# Altium schematic symbol library Schematic-Lib-ABahlmann-SMD.SchLib: 214 symbols (part 2 of 2)
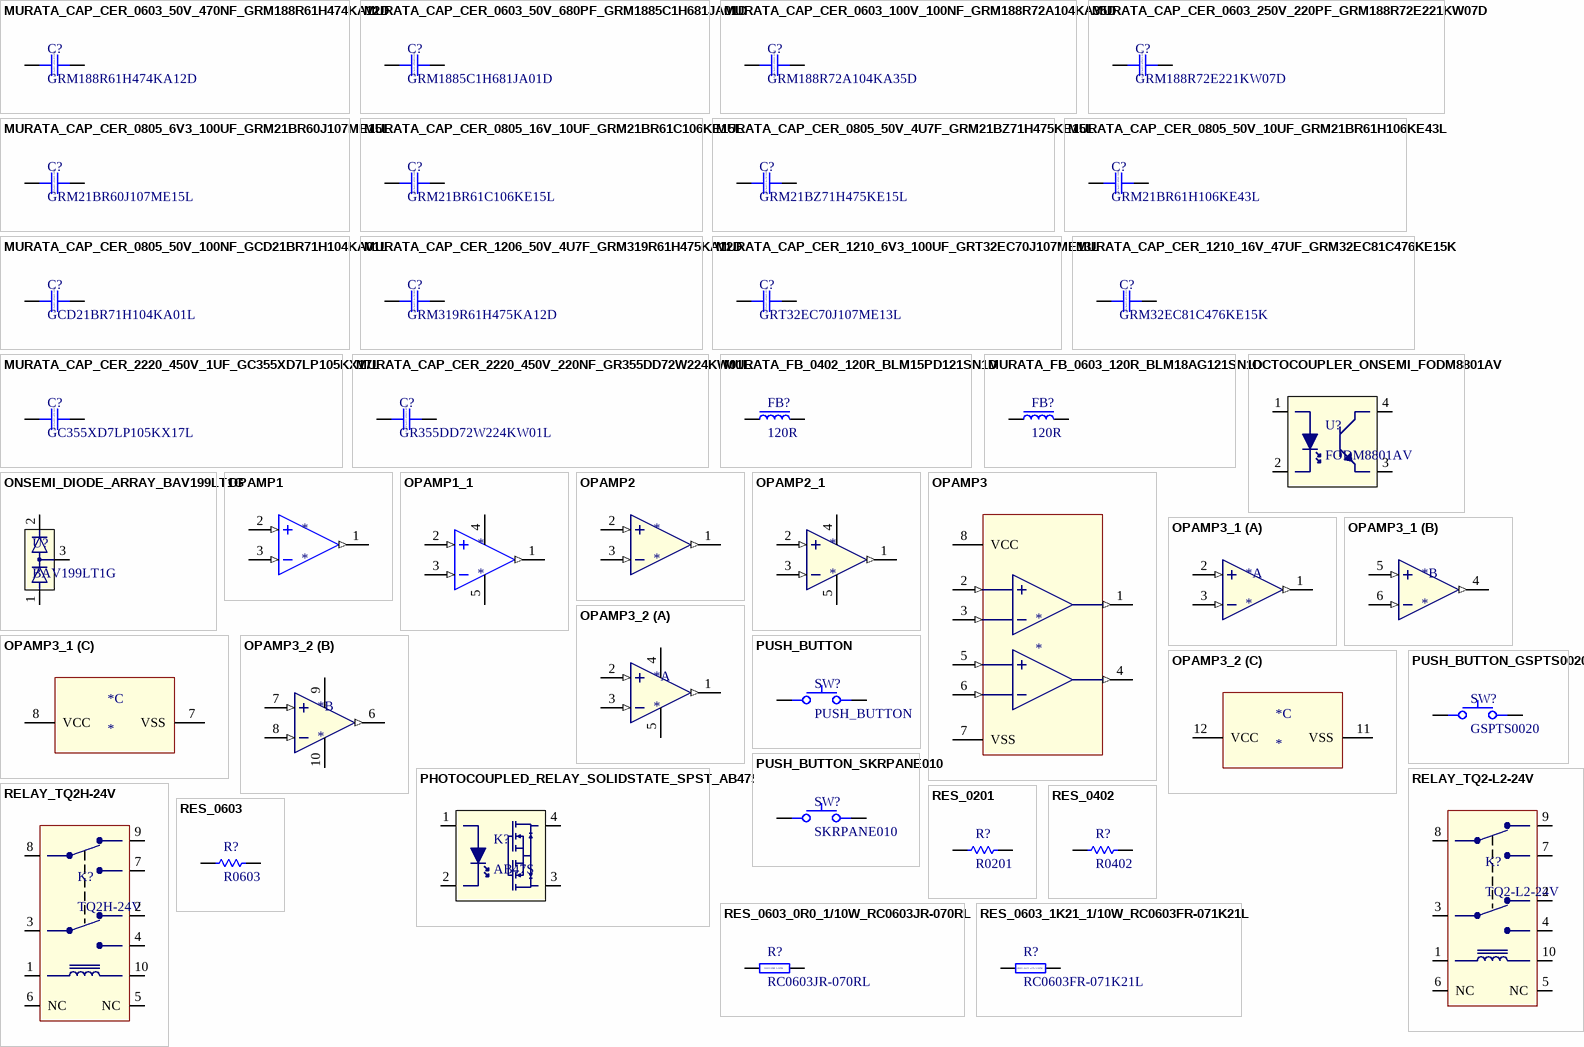
[diagram p6: symbols MURATA_CAP_CER_0603_50V_470NF_GRM188R61H474KA12D to RES_0603_1K21_1/10W_RC0603FR-071K21L]

## MURATA_FB_0402_120R_BLM15PD121SN1D
designator FB?, comment 120R
120 Ohms 1 Power Line Ferrite Bead 0402 (1005 Metric) 1.3A 90mOhm; Manufacturer: Murata Electronics; Manufacturer Part Number: BLM15PD121SN1D; Distributor Link: https://www.digikey.ca/en/products/detail/murata-electronics/BLM15PD121SN1D/1948309; LCSC: *; Rating: *; ComponentLink1Description: Digikey; ComponentLink1URL: https://www.digikey.ca/en/products/detail/murata-electronics/BLM15PD121SN1D/1948309; ComponentLink2Description: Datasheet; ComponentLink2URL: https://pim.murata.com/asset/pim4/ferriteBeadInductortypefilter/ENFA0018_PDF_FERRITEBEADINDUCTORTYPEFILTER?lastModifiedDatetime=20250707191428
footprint MURATA_FERRITE_BEAD_0402
pins: 1, 2

## MURATA_FB_0603_120R_BLM18AG121SN1D
designator FB?, comment 120R
120 Ohms @ 100 MHz 1 Ferrite Bead 0603 (1608 Metric) 800mA 180mOhm; Manufacturer: Murata Electronics; Manufacturer Part Number: BLM18AG121SN1D; Distributor Link: https://www.digikey.ca/en/products/detail/murata-electronics/BLM18AG121SN1D/584222; LCSC: *; Rating: *; ComponentLink1Description: Digikey; ComponentLink1URL: https://www.digikey.ca/en/products/detail/murata-electronics/BLM18AG121SN1D/584222; ComponentLink2Description: Datasheet; ComponentLink2URL: https://pim.murata.com/asset/pim4/ferriteBeadInductortypefilter/ENFA0003_PDF_FERRITEBEADINDUCTORTYPEFILTER?lastModifiedDatetime=20250707190934
footprint MURATA_FERRITE_BEAD_0603
pins: 1, 2

## OCTOCOUPLER_ONSEMI_FODM8801AV
designator U?, comment FODM8801AV
Optoisolator Transistor Output 3750Vrms 1 Channel 4-Mini-Flat; ComponentLink1Description: Digikey; ComponentLink1URL: https://www.digikey.com/en/products/detail/onsemi/FODM8801AV/4493940; ComponentLink2Description: Datasheet; ComponentLink2URL: https://www.onsemi.com/pdf/datasheet/fodm8801a-d.pdf
footprint SOIC-4_FODM8801AV (Optoisolator Transistor Output 3750Vrms 1 Channel 4-Mini-Flat)
pins: 1 ANODE, 2 CATHODE, 3 EMITTER, 4 COLLECTOR

## ONSEMI_DIODE_ARRAY_BAV199LT1G
designator U?, comment BAV199LT1G
Diode Array 1 Pair Series Connection 70 V 215mA (DC) Surface Mount TO-236-3, SC-59, SOT-23-3; ComponentLink1Description: Digikey; ComponentLink1URL: https://www.digikey.com/en/products/detail/onsemi/BAV199LT1G/917816; ComponentLink2Description: Datasheet; ComponentLink2URL: https://www.onsemi.com/pdf/datasheet/bav199lt1-d.pdf
footprint ONSEMI_DIODE_ARRAY_BAV199LT1G (Diode Array 1 Pair Series Connection 70 V 215mA (DC) Surface Mount TO-236-3, SC-59, SOT-23-3)
pins: 1 A, 2 K, 3 K/A

## OPAMP1
designator *
pins: 1 (out), 2 (in), 3 (in)

## OPAMP1_1
designator *
pins: 1 (out), 2 (in), 3 (in), 4, 5

## OPAMP2
designator *
pins: 1 (out), 2 (in), 3 (in)

## OPAMP2_1
designator *
pins: 1 (out), 2 (in), 3 (in), 4, 5

## OPAMP3
designator *
pins: 1 (out), 2 (in), 3 (in), 4 (out), 5 (in), 6 (in), 7 VSS, 8 VCC

## OPAMP3_1
designator *
part A pins: 1 (out), 2 (in), 3 (in)
part B pins: 4 (out), 5 (in), 6 (in)
part C pins: 7 VSS, 8 VCC

## OPAMP3_2
designator *
part A pins: 1 (out), 2 (in), 3 (in), 4, 5
part B pins: 6 (out), 7 (in), 8 (in), 9, 10
part C pins: 11 VSS, 12 VCC

## PHOTOCOUPLED_RELAY_SOLIDSTATE_SPST_AB47S
designator K?, comment AB47S
Solid State Photo-Coupled Relay (Photorelay) SPST-NO (1 Form A) 4-SOP (0.173", 4.40mm); ComponentLink1Description: Digikey; ComponentLink1URL: https://www.digikey.ca/en/products/detail/comus-international/AB47S/9817865; ComponentLink2Description: Datasheet; ComponentLink2URL: https://comus-intl.com/wp-content/uploads/2016/06/47-Series.pdf
pins: 1 ANODE, 2 CATHODE, 3, 4

## PUSH_BUTTON
designator SW?
Tactile Switch SMD SPST
pins: 1, 2

## PUSH_BUTTON_GSPTS0020
designator SW?, comment GSPTS0020
Tactile Switch SPST-NO Top Actuated Surface Mount; ComponentLink1Description: Digikey; ComponentLink1URL: https://www.digikey.ca/en/products/detail/c-k/GSPTS0020/9947846; ComponentLink2Description: Datasheet; ComponentLink2URL: https://www.ckswitches.com/media/2728/pts815.pdf
pins: 1, 2

## PUSH_BUTTON_SKRPANE010
designator SW?, comment SKRPANE010
Tactile Switch SPST-NO Top Actuated Surface Mount; ComponentLink1Description: Digikey; ComponentLink1URL: https://www.digikey.ca/en/products/detail/alps-alpine/SKRPANE010/26519635?s=N4IgTCBcDaIMoGkBKAFAggOQKIAYCMOIAugL5A; ComponentLink2Description: Datasheet; ComponentLink2URL: https://tech.alpsalpine.com/cms.media/product_spec_skrpane010_en_1e0076b4ef.pdf
pins: 1, 2

## RELAY_TQ2-L2-24V
designator K?, comment TQ2-L2-24V
Telecom Relay DPDT (2 Form C) Through Hole; ComponentLink1Description: Digikey; ComponentLink1URL: https://www.digikey.com/en/products/detail/panasonic-electric-works/TQ2-L2-24V/251781; ComponentLink2Description: Datasheet; ComponentLink2URL: https://mm.digikey.com/Volume0/opasdata/d220001/medias/docus/7330/mech_eng_tq.pdf
footprint RELAY_TQ2-L2-24V (Telecom Relay DPDT (2 Form C) Through Hole)
pins: 1, 2, 3, 4, 5 NC, 6 NC, 7, 8, 9, 10

## RELAY_TQ2H-24V
designator K?, comment TQ2H-24V
Telecom Relay DPDT (2 Form C) Through Hole; ComponentLink1Description: Digikey; ComponentLink1URL: https://www.digikey.com/en/products/detail/panasonic-electric-works/TQ2H-24V/649335; ComponentLink2Description: Datasheet; ComponentLink2URL: https://mm.digikey.com/Volume0/opasdata/d220001/medias/docus/7330/mech_eng_tq.pdf
pins: 1, 2, 3, 4, 5 NC, 6 NC, 7, 8, 9, 10

## RES_0201
designator R?, comment R0201
Resistor SMD 0201; Manufacturer: *; Manufacturer Part Number: *; Distributor Link: *; LCSC: *; Rating: *
pins: 1, 2

## RES_0402
designator R?, comment R0402
Resistor SMD 0402; Manufacturer: *; Manufacturer Part Number: *; Distributor Link: *; LCSC: *; Rating: *
footprint RES_0402
pins: 1, 2

## RES_0603
designator R?, comment R0603
Resistor SMD 0603; Manufacturer: *; Manufacturer Part Number: *; Distributor Link: *; LCSC: *; Rating: *
footprint RES_0603
pins: 1, 2

## RES_0603_0R0_1/10W_RC0603JR-070RL
designator R?, comment RC0603JR-070RL
0 Ohms Jumper 0.1W, 1/10W Chip Resistor 0603 (1608 Metric) Moisture Resistant Thick Film; Manufacturer: Yageo; Manufacturer Part Number: RC0603JR-070RL; Distributor Link: *; LCSC: *; Rating: *; ComponentLink1Description: Digikey; ComponentLink1URL: https://www.digikey.com/en/products/detail/yageo/RC0603JR-070RL/726675; ComponentLink2Description: Datasheet; ComponentLink2URL: https://yageogroup.com/content/datasheet/asset/file/PYU-RC_GROUP_51_ROHS_L
footprint RES_0603_0R0_1/10W_RC0603JR-070RL (0 Ohms Jumper 0.1W, 1/10W Chip Resistor 0603 (1608 Metric) Moisture Resistant Thick Film)
pins: 1, 2
text: 0603 0R0 1/10W

## RES_0603_1K21_1/10W_RC0603FR-071K21L
designator R?, comment RC0603FR-071K21L
1.21 kOhms ±1% 0.1W, 1/10W Chip Resistor 0603 (1608 Metric) Moisture Resistant Thick Film; Manufacturer: Yageo; Manufacturer Part Number: RC0603FR-071K21L; Distributor Link: *; LCSC: *; Rating: *; ComponentLink1Description: Digikey; ComponentLink1URL: https://www.digikey.ca/en/products/detail/yageo/RC0603FR-071K21L/726854; ComponentLink2Description: Datasheet; ComponentLink2URL: https://yageogroup.com/content/datasheet/asset/file/PYU-RC_GROUP_51_ROHS_L
footprint RES_0603_IPC
pins: 1, 2
text: 0603 1k21 ±1% 1/10W

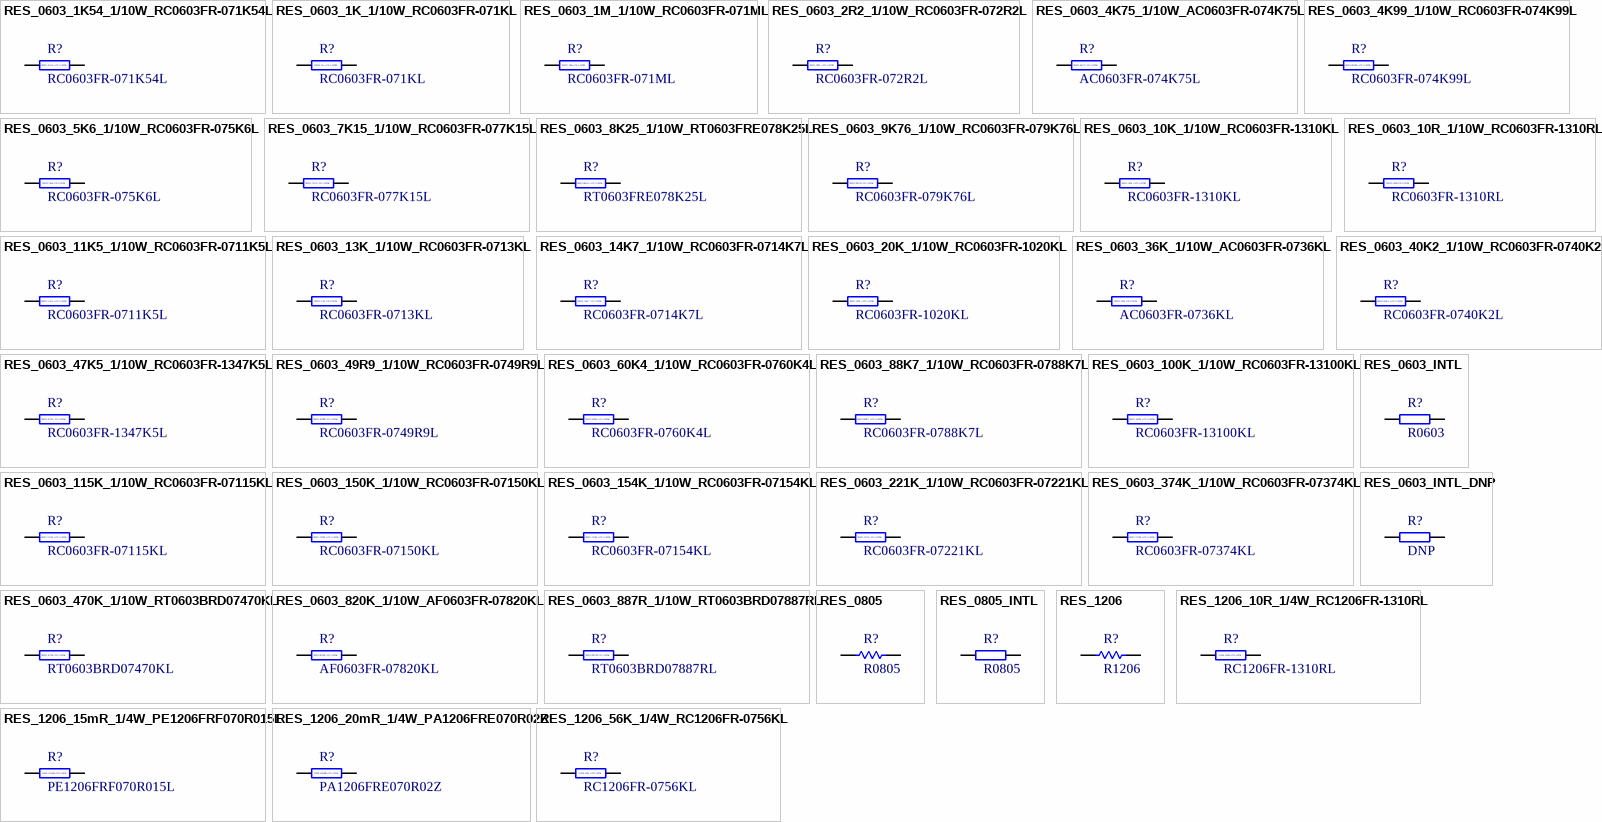
[diagram p4: symbols RES_0603_1K54_1/10W_RC0603FR-071K54L to RES_1206_56K_1/4W_RC1206FR-0756KL]

## RES_0603_1K54_1/10W_RC0603FR-071K54L
designator R?, comment RC0603FR-071K54L
1.54 kOhms ±1% 0.1W, 1/10W Chip Resistor 0603 (1608 Metric) Moisture Resistant Thick Film; Manufacturer: Yageo; Manufacturer Part Number: RC0603FR-071K54L; Distributor Link: *; LCSC: *; Rating: *; ComponentLink1Description: Digikey; ComponentLink1URL: https://www.digikey.ca/en/products/detail/yageo/RC0603FR-071K54L/726866; ComponentLink2Description: Datasheet; ComponentLink2URL: https://yageogroup.com/content/datasheet/asset/file/PYU-RC_GROUP_51_ROHS_L
footprint RES_0603_IPC
pins: 1, 2
text: 0603 1k54 ±1% 1/10W

## RES_0603_1K_1/10W_RC0603FR-071KL
designator R?, comment RC0603FR-071KL
1 kOhms ±1% 0.1W, 1/10W Chip Resistor 0603 (1608 Metric) Moisture Resistant Thick Film; Manufacturer: Yageo; Manufacturer Part Number: RC0603FR-071KL; Distributor Link: *; LCSC: *; Rating: *; ComponentLink1Description: Digikey; ComponentLink1URL: https://www.digikey.com/en/products/detail/yageo/RC0603FR-071KL/726843; ComponentLink2Description: Datasheet; ComponentLink2URL: https://yageogroup.com/content/datasheet/asset/file/PYU-RC_GROUP_51_ROHS_L
footprint RES_0603_1K_1/10W_RC0603FR-071KL (1 kOhms ±1% 0.1W, 1/10W Chip Resistor 0603 (1608 Metric) Moisture Resistant Thick Film)
pins: 1, 2
text: 0603 1k ±1% 1/10W

## RES_0603_1M_1/10W_RC0603FR-071ML
designator R?, comment RC0603FR-071ML
1 MOhms ±1% 0.1W, 1/10W Chip Resistor 0603 (1608 Metric) Moisture Resistant Thick Film; Manufacturer: Yageo; Manufacturer Part Number: RC0603FR-071ML; Distributor Link: *; LCSC: *; Rating: *; ComponentLink1Description: Digikey; ComponentLink1URL: https://www.digikey.ca/en/products/detail/yageo/RC0603FR-071ML/726844; ComponentLink2Description: Datasheet; ComponentLink2URL: https://yageogroup.com/content/datasheet/asset/file/PYU-RC_GROUP_51_ROHS_L
footprint RES_0603_IPC
pins: 1, 2
text: 0603 1M ±1% 1/10W

## RES_0603_2R2_1/10W_RC0603FR-072R2L
designator R?, comment RC0603FR-072R2L
2.2 Ohms ±1% 0.1W, 1/10W Chip Resistor 0603 (1608 Metric) Moisture Resistant Thick Film; Manufacturer: Yageo; Manufacturer Part Number: RC0603FR-072R2L; Distributor Link: *; LCSC: *; Rating: *; ComponentLink1Description: Digikey; ComponentLink1URL: https://www.digikey.ca/en/products/detail/yageo/RC0603FR-072R2L/2827592; ComponentLink2Description: Datasheet; ComponentLink2URL: https://yageogroup.com/content/datasheet/asset/file/PYU-RC_GROUP_51_ROHS_L
footprint RES_0603_IPC
pins: 1, 2
text: 0603 2R2 ±1% 1/10W

## RES_0603_4K75_1/10W_AC0603FR-074K75L
designator R?, comment AC0603FR-074K75L
4.75 kOhms ±1% 0.1W, 1/10W Chip Resistor 0603 (1608 Metric) Automotive AEC-Q200, Moisture Resistant Thick Film; Manufacturer: Yageo; Manufacturer Part Number: AC0603FR-074K75L; Distributor Link: *; LCSC: *; Rating: *; ComponentLink1Description: Digikey; ComponentLink1URL: https://www.digikey.ca/en/products/detail/yageo/AC0603FR-074K75L/5896159; ComponentLink2Description: Datasheet; ComponentLink2URL: https://yageogroup.com/content/datasheet/asset/file/PYU-AC_51_ROHS_L
footprint RES_0603_IPC
pins: 1, 2
text: 0603 4k75 1% 1/10W

## RES_0603_4K99_1/10W_RC0603FR-074K99L
designator R?, comment RC0603FR-074K99L
4.99 kOhms ±1% 0.1W, 1/10W Chip Resistor 0603 (1608 Metric) Moisture Resistant Thick Film; Manufacturer: Yageo; Manufacturer Part Number: RC0603FR-074K99L; Distributor Link: *; LCSC: *; Rating: *; ComponentLink1Description: Digikey; ComponentLink1URL: https://www.digikey.com/en/products/detail/yageo/RC0603FR-074K99L/727219; ComponentLink2Description: Datasheet; ComponentLink2URL: https://yageogroup.com/content/datasheet/asset/file/PYU-RC_GROUP_51_ROHS_L
footprint RES_0603_4K99_1/10W_RC0603FR-074K99L (4.99 kOhms ±1% 0.1W, 1/10W Chip Resistor 0603 (1608 Metric) Moisture Resistant Thick Film)
pins: 1, 2
text: 0603 4k99 ±1% 1/10W

## RES_0603_5K6_1/10W_RC0603FR-075K6L
designator R?, comment RC0603FR-075K6L
5.6 kOhms ±1% 0.1W, 1/10W Chip Resistor 0603 (1608 Metric) Moisture Resistant Thick Film; Manufacturer: Yageo; Manufacturer Part Number: RC0603FR-075K6L; Distributor Link: *; LCSC: *; Rating: *; ComponentLink1Description: Digikey; ComponentLink1URL: https://www.digikey.ca/en/products/detail/yageo/RC0603FR-075K6L/727275; ComponentLink2Description: Datasheet; ComponentLink2URL: https://yageogroup.com/content/datasheet/asset/file/PYU-RC_GROUP_51_ROHS_L
footprint RES_0603_IPC
pins: 1, 2
text: 0603 5k6 1% 1/10W

## RES_0603_7K15_1/10W_RC0603FR-077K15L
designator R?, comment RC0603FR-077K15L
7.15 kOhms ±1% 0.1W, 1/10W Chip Resistor 0603 (1608 Metric) Moisture Resistant Thick Film; Manufacturer: Yageo; Manufacturer Part Number: RC0603FR-077K15L; Distributor Link: *; LCSC: *; Rating: *; ComponentLink1Description: Digikey; ComponentLink1URL: https://www.digikey.ca/en/products/detail/yageo/RC0603FR-077K15L/727363; ComponentLink2Description: Datasheet; ComponentLink2URL: https://yageogroup.com/content/datasheet/asset/file/PYU-RC_GROUP_51_ROHS_L
footprint RES_0603_IPC
pins: 1, 2
text: 0603 7k15 1% 1/10W

## RES_0603_8K25_1/10W_RT0603FRE078K25L
designator R?, comment RT0603FRE078K25L
8.25 kOhms ±1% 0.1W, 1/10W Chip Resistor 0603 (1608 Metric) Thin Film; Manufacturer: Yageo; Manufacturer Part Number: RT0603FRE078K25L; Distributor Link: *; LCSC: *; Rating: *; ComponentLink1Description: Digikey; ComponentLink1URL: https://www.digikey.ca/en/products/detail/yageo/RT0603FRE078K25L/1075514; ComponentLink2Description: Datasheet; ComponentLink2URL: https://yageogroup.com/content/datasheet/asset/file/PYU-RT_1-TO-0-01_ROHS_L
footprint RES_0603_IPC
pins: 1, 2
text: 0603 8k25 ±1% 1/10W

## RES_0603_9K76_1/10W_RC0603FR-079K76L
designator R?, comment RC0603FR-079K76L
9.76 kOhms ±1% 0.1W, 1/10W Chip Resistor 0603 (1608 Metric) Moisture Resistant Thick Film; Manufacturer: Yageo; Manufacturer Part Number: RC0603FR-079K76L; Distributor Link: *; LCSC: *; Rating: *; ComponentLink1Description: Digikey; ComponentLink1URL: https://www.digikey.ca/en/products/detail/yageo/RC0603FR-079K76L/727422; ComponentLink2Description: Datasheet; ComponentLink2URL: https://yageogroup.com/content/datasheet/asset/file/PYU-RC_GROUP_51_ROHS_L
footprint RES_0603_IPC
pins: 1, 2
text: 0603 9k76 1% 1/10W

## RES_0603_10K_1/10W_RC0603FR-1310KL
designator R?, comment RC0603FR-1310KL
10 kOhms ±1% 0.1W, 1/10W Chip Resistor 0603 (1608 Metric) Moisture Resistant Thick Film; Manufacturer: Yageo; Manufacturer Part Number: RC0603FR-1310KL; Distributor Link: *; LCSC: *; Rating: *; ComponentLink1Description: Digikey; ComponentLink1URL: https://www.digikey.ca/en/products/detail/yageo/RC0603FR-1310KL/12756399?gclsrc=aw.ds&gad_source=1&gad_campaignid=17336435733&gbraid=0AAAAADrbLlhIcgpv2gvpz9yjGbse-w-JT&gclid=EAIaIQobChMIw7SC0aa8lgMVDofCCB3wmjAsEAQYASABEgK6OvD_BwE; ComponentLink2Description: Datasheet; ComponentLink2URL: https://yageogroup.com/content/datasheet/asset/file/PYU-RC_GROUP_51_ROHS_L
footprint RES_0603_10K_1/10W_RC0603FR-1310KL (10 kOhms ±1% 0.1W, 1/10W Chip Resistor 0603 (1608 Metric) Moisture Resistant Thick Film)
pins: 1, 2
text: 0603 10k ±1% 1/10W

## RES_0603_10R_1/10W_RC0603FR-1310RL
designator R?, comment RC0603FR-1310RL
10 Ohms ±1% 0.1W, 1/10W Chip Resistor 0603 (1608 Metric) Moisture Resistant Thick Film; Manufacturer: Yageo; Manufacturer Part Number: RC0603FR-1310RL; Distributor Link: *; LCSC: *; Rating: *; ComponentLink1Description: Digikey; ComponentLink1URL: https://www.digikey.ca/en/products/detail/yageo/RC0603FR-1310RL/13694232; ComponentLink2Description: Datasheet; ComponentLink2URL: https://yageogroup.com/content/datasheet/asset/file/PYU-RC_GROUP_51_ROHS_L
footprint RES_0603_IPC
pins: 1, 2
text: 0603 10R 1% 1/10W

## RES_0603_11K5_1/10W_RC0603FR-0711K5L
designator R?, comment RC0603FR-0711K5L
11.5 kOhms ±1% 0.1W, 1/10W Chip Resistor 0603 (1608 Metric) Moisture Resistant Thick Film; Manufacturer: Yageo; Manufacturer Part Number: RC0603FR-0711K5L; Distributor Link: *; LCSC: *; Rating: *; ComponentLink1Description: Digikey; ComponentLink1URL: https://www.digikey.ca/en/products/detail/yageo/RC0603FR-0711K5L/726901; ComponentLink2Description: Datasheet; ComponentLink2URL: https://yageogroup.com/content/datasheet/asset/file/PYU-RC_GROUP_51_ROHS_L
footprint RES_0603_11K5_1/10W_RC0603FR-0711K5L (11.5 kOhms ±1% 0.1W, 1/10W Chip Resistor 0603 (1608 Metric) Moisture Resistant Thick Film)
pins: 1, 2
text: 0603 11k5 ±1% 1/10W

## RES_0603_13K_1/10W_RC0603FR-0713KL
designator R?, comment RC0603FR-0713KL
13 kOhms ±1% 0.1W, 1/10W Chip Resistor 0603 (1608 Metric) Moisture Resistant Thick Film; Manufacturer: Yageo; Manufacturer Part Number: RC0603FR-0713KL; Distributor Link: *; LCSC: *; Rating: *; ComponentLink1Description: Digikey; ComponentLink1URL: https://www.digikey.ca/en/products/detail/yageo/RC0603FR-0713KL/726929; ComponentLink2Description: Datasheet; ComponentLink2URL: https://yageogroup.com/content/datasheet/asset/file/PYU-RC_GROUP_51_ROHS_L
footprint RES_0603_IPC
pins: 1, 2
text: 0603 13k 1% 1/10W

## RES_0603_14K7_1/10W_RC0603FR-0714K7L
designator R?, comment RC0603FR-0714K7L
14.7 kOhms ±1% 0.1W, 1/10W Chip Resistor 0603 (1608 Metric) Moisture Resistant Thick Film; Manufacturer: Yageo; Manufacturer Part Number: RC0603FR-0714K7L; Distributor Link: *; LCSC: *; Rating: *; ComponentLink1Description: Digikey; ComponentLink1URL: https://www.digikey.ca/en/products/detail/yageo/RC0603FR-0714K7L/726945; ComponentLink2Description: Datasheet; ComponentLink2URL: https://yageogroup.com/content/datasheet/asset/file/PYU-RC_GROUP_51_ROHS_L
footprint RES_0603_IPC
pins: 1, 2
text: 0603 14k7 1% 1/10W

## RES_0603_20K_1/10W_RC0603FR-1020KL
designator R?, comment RC0603FR-1020KL
20 kOhms ±1% 0.1W, 1/10W Chip Resistor 0603 (1608 Metric) Moisture Resistant Thick Film; Manufacturer: Yageo; Manufacturer Part Number: RC0603FR-1020KL; Distributor Link: *; LCSC: *; Rating: *; ComponentLink1Description: Digikey; ComponentLink1URL: https://www.digikey.com/en/products/detail/yageo/RC0603FR-1020KL/13694173; ComponentLink2Description: Datasheet; ComponentLink2URL: https://yageogroup.com/content/datasheet/asset/file/PYU-RC_GROUP_51_ROHS_L
footprint RES_0603_20K_1/10W_RC0603FR-1020KL (20 kOhms ±1% 0.1W, 1/10W Chip Resistor 0603 (1608 Metric) Moisture Resistant Thick Film)
pins: 1, 2
text: 0603 20k ±1% 1/10W

## RES_0603_36K_1/10W_AC0603FR-0736KL
designator R?, comment AC0603FR-0736KL
36 kOhms ±1% 0.1W, 1/10W Chip Resistor 0603 (1608 Metric) Automotive AEC-Q200, Moisture Resistant Thick Film; Manufacturer: Yageo; Manufacturer Part Number: AC0603FR-0736KL; Distributor Link: *; LCSC: *; Rating: *; ComponentLink1Description: Digikey; ComponentLink1URL: https://www.digikey.ca/en/products/detail/yageo/AC0603FR-0736KL/5896061; ComponentLink2Description: Datasheet; ComponentLink2URL: https://yageogroup.com/content/datasheet/asset/file/PYU-AC_51_ROHS_L
footprint RES_0603_IPC
pins: 1, 2
text: 0603 36k 1% 1/10W

## RES_0603_40K2_1/10W_RC0603FR-0740K2L
designator R?, comment RC0603FR-0740K2L
40.2 kOhms ±1% 0.1W, 1/10W Chip Resistor 0603 (1608 Metric) Moisture Resistant Thick Film; Manufacturer: Yageo; Manufacturer Part Number: RC0603FR-0740K2L; Distributor Link: *; LCSC: *; Rating: *; ComponentLink1Description: Digikey; ComponentLink1URL: https://www.digikey.ca/en/products/detail/yageo/RC0603FR-0740K2L/727221; ComponentLink2Description: Datasheet; ComponentLink2URL: https://yageogroup.com/content/datasheet/asset/file/PYU-RC_GROUP_51_ROHS_L
footprint RES_0603_IPC
pins: 1, 2
text: 0603 40k2 ±1% 1/10W

## RES_0603_47K5_1/10W_RC0603FR-1347K5L
designator R?, comment RC0603FR-1347K5L
47.5 kOhms ±1% 0.1W, 1/10W Chip Resistor 0603 (1608 Metric) Thick Film; Manufacturer: Yageo; Manufacturer Part Number: RC0603FR-1347K5L; Distributor Link: *; LCSC: *; Rating: *; ComponentLink1Description: Digikey; ComponentLink1URL: https://www.digikey.ca/en/products/detail/yageo/RC0603FR-1347K5L/14286382; ComponentLink2Description: Datasheet; ComponentLink2URL: https://yageogroup.com/content/datasheet/asset/file/PYU-RC_GROUP_51_ROHS_L
footprint RES_0603_IPC
pins: 1, 2
text: 0603 47k5 1% 1/10W

## RES_0603_49R9_1/10W_RC0603FR-0749R9L
designator R?, comment RC0603FR-0749R9L
49.9 Ohms ±1% 0.1W, 1/10W Chip Resistor 0603 (1608 Metric) Moisture Resistant Thick Film; Manufacturer: Yageo; Manufacturer Part Number: RC0603FR-0749R9L; Distributor Link: *; LCSC: *; Rating: *; ComponentLink1Description: Digikey; ComponentLink1URL: https://www.digikey.ca/en/products/detail/yageo/RC0603FR-0749R9L/727264; ComponentLink2Description: Datasheet; ComponentLink2URL: https://yageogroup.com/content/datasheet/asset/file/PYU-RC_GROUP_51_ROHS_L
footprint RES_0603_IPC
pins: 1, 2
text: 0603 49R9 1% 1/10W

## RES_0603_60K4_1/10W_RC0603FR-0760K4L
designator R?, comment RC0603FR-0760K4L
60.4 kOhms ±1% 0.1W, 1/10W Chip Resistor 0603 (1608 Metric) Moisture Resistant Thick Film; Manufacturer: Yageo; Manufacturer Part Number: RC0603FR-0760K4L; Distributor Link: *; LCSC: *; Rating: *; ComponentLink1Description: Digikey; ComponentLink1URL: https://www.digikey.ca/en/products/detail/yageo/RC0603FR-0760K4L/727328; ComponentLink2Description: Datasheet; ComponentLink2URL: https://yageogroup.com/content/datasheet/asset/file/PYU-RC_GROUP_51_ROHS_L
footprint RES_0603_IPC
pins: 1, 2
text: 0603 60k4 1% 1/10W

## RES_0603_88K7_1/10W_RC0603FR-0788K7L
designator R?, comment RC0603FR-0788K7L
88.7 kOhms ±1% 0.1W, 1/10W Chip Resistor 0603 (1608 Metric) Moisture Resistant Thick Film; Manufacturer: Yageo; Manufacturer Part Number: RC0603FR-0788K7L; Distributor Link: *; LCSC: *; Rating: *; ComponentLink1Description: Digikey; ComponentLink1URL: https://www.digikey.ca/en/products/detail/yageo/RC0603FR-0788K7L/727415; ComponentLink2Description: Datasheet; ComponentLink2URL: https://yageogroup.com/content/datasheet/asset/file/PYU-RC_GROUP_51_ROHS_L
footprint RES_0603_IPC
pins: 1, 2
text: 0603 88k7 ±1% 1/10W

## RES_0603_100K_1/10W_RC0603FR-13100KL
designator R?, comment RC0603FR-13100KL
100 kOhms ±1% 0.1W, 1/10W Chip Resistor 0603 (1608 Metric) Moisture Resistant Thick Film; Manufacturer: Yageo; Manufacturer Part Number: RC0603FR-13100KL; Distributor Link: *; LCSC: *; Rating: *; ComponentLink1Description: Digikey; ComponentLink1URL: https://www.digikey.com/en/products/detail/yageo/RC0603FR-13100KL/12756389; ComponentLink2Description: Datasheet; ComponentLink2URL: https://yageogroup.com/content/datasheet/asset/file/PYU-RC_GROUP_51_ROHS_L
footprint RES_0603_100K_1/10W_RC0603FR-13100KL (100 kOhms ±1% 0.1W, 1/10W Chip Resistor 0603 (1608 Metric) Moisture Resistant Thick Film)
pins: 1, 2
text: 0603 100k ±1% 1/10W

## RES_0603_115K_1/10W_RC0603FR-07115KL
designator R?, comment RC0603FR-07115KL
115 kOhms ±1% 0.1W, 1/10W Chip Resistor 0603 (1608 Metric) Moisture Resistant Thick Film; Manufacturer: Yageo; Manufacturer Part Number: RC0603FR-07115KL; Distributor Link: *; LCSC: *; Rating: *; ComponentLink1Description: Digikey; ComponentLink1URL: https://www.digikey.ca/en/products/detail/yageo/RC0603FR-07115KL/726909; ComponentLink2Description: Datasheet; ComponentLink2URL: https://yageogroup.com/content/datasheet/asset/file/PYU-RC_GROUP_51_ROHS_L
footprint RES_0603_IPC
pins: 1, 2
text: 0603 115k ±1% 1/10W

## RES_0603_150K_1/10W_RC0603FR-07150KL
designator R?, comment RC0603FR-07150KL
150 kOhms ±1% 0.1W, 1/10W Chip Resistor 0603 (1608 Metric) Moisture Resistant Thick Film; Manufacturer: Yageo; Manufacturer Part Number: RC0603FR-07150KL; Distributor Link: *; LCSC: *; Rating: *; ComponentLink1Description: Digikey; ComponentLink1URL: https://www.digikey.ca/en/products/detail/yageo/RC0603FR-07150KL/726959; ComponentLink2Description: Datasheet; ComponentLink2URL: https://yageogroup.com/content/datasheet/asset/file/PYU-RC_GROUP_51_ROHS_L
footprint RES_0603_IPC
pins: 1, 2
text: 0603 150k ±1% 1/10W

## RES_0603_154K_1/10W_RC0603FR-07154KL
designator R?, comment RC0603FR-07154KL
154 kOhms ±1% 0.1W, 1/10W Chip Resistor 0603 (1608 Metric) Moisture Resistant Thick Film; Manufacturer: Yageo; Manufacturer Part Number: RC0603FR-07154KL; Distributor Link: *; LCSC: *; Rating: *; ComponentLink1Description: Digikey; ComponentLink1URL: https://www.digikey.ca/en/products/detail/yageo/RC0603FR-07154KL/726961; ComponentLink2Description: Datasheet; ComponentLink2URL: https://yageogroup.com/content/datasheet/asset/file/PYU-RC_GROUP_51_ROHS_L
footprint RES_0603_154K_1/10W_RC0603FR-07154KL (154 kOhms ±1% 0.1W, 1/10W Chip Resistor 0603 (1608 Metric) Moisture Resistant Thick Film)
pins: 1, 2
text: 0603 154k ±1% 1/10W

## RES_0603_221K_1/10W_RC0603FR-07221KL
designator R?, comment RC0603FR-07221KL
221 kOhms ±1% 0.1W, 1/10W Chip Resistor 0603 (1608 Metric) Moisture Resistant Thick Film; Manufacturer: Yageo; Manufacturer Part Number: RC0603FR-07221KL; Distributor Link: *; LCSC: *; Rating: *; ComponentLink1Description: Digikey; ComponentLink1URL: https://www.digikey.ca/en/products/detail/yageo/RC0603FR-07221KL/727064; ComponentLink2Description: Datasheet; ComponentLink2URL: https://yageogroup.com/content/datasheet/asset/file/PYU-RC_GROUP_51_ROHS_L
footprint RES_0603_IPC
pins: 1, 2
text: 0603 221k 1% 1/10W

## RES_0603_374K_1/10W_RC0603FR-07374KL
designator R?, comment RC0603FR-07374KL
374 kOhms ±1% 0.1W, 1/10W Chip Resistor 0603 (1608 Metric) Moisture Resistant Thick Film; Manufacturer: Yageo; Manufacturer Part Number: RC0603FR-07374KL; Distributor Link: *; LCSC: *; Rating: *; ComponentLink1Description: Digikey; ComponentLink1URL: https://www.digikey.ca/en/products/detail/yageo/RC0603FR-07374KL/727189; ComponentLink2Description: Datasheet; ComponentLink2URL: https://yageogroup.com/content/datasheet/asset/file/PYU-RC_GROUP_51_ROHS_L
footprint RES_0603_374K_1/10W_RC0603FR-07374KL (374 kOhms ±1% 0.1W, 1/10W Chip Resistor 0603 (1608 Metric) Moisture Resistant Thick Film)
pins: 1, 2
text: 0603 374k ±1% 1/10W

## RES_0603_470K_1/10W_RT0603BRD07470KL
designator R?, comment RT0603BRD07470KL
470 kOhms ±0.1% 0.1W, 1/10W Chip Resistor 0603 (1608 Metric) Thin Film; Manufacturer: Yageo; Manufacturer Part Number: RT0603BRD07470KL; Distributor Link: *; LCSC: *; Rating: *; ComponentLink1Description: Digikey; ComponentLink1URL: https://www.digikey.ca/en/products/detail/yageo/RT0603BRD07470KL/5927958; ComponentLink2Description: Datasheet; ComponentLink2URL: https://yageogroup.com/content/datasheet/asset/file/PYU-RT_1-TO-0-01_ROHS_L
footprint RES_0603_IPC
pins: 1, 2
text: 0603 470k 1% 1/10W

## RES_0603_820K_1/10W_AF0603FR-07820KL
designator R?, comment AF0603FR-07820KL
820 kOhms ±1% 0.1W, 1/10W Chip Resistor 0603 (1608 Metric) Anti-Sulfur, Automotive AEC-Q200 Thick Film; Manufacturer: Yageo; Manufacturer Part Number: AF0603FR-07820KL; Distributor Link: *; LCSC: *; Rating: *; ComponentLink1Description: Digikey; ComponentLink1URL: https://www.digikey.ca/en/products/detail/yageo/AF0603FR-07820KL/5901113; ComponentLink2Description: Datasheet; ComponentLink2URL: https://yageogroup.com/content/datasheet/asset/file/PYU-AF_51_ROHS_L
footprint RES_0603_IPC
pins: 1, 2
text: 0603 820k 1% 1/10W

## RES_0603_887R_1/10W_RT0603BRD07887RL
designator R?, comment RT0603BRD07887RL
887 Ohms ±0.1% 0.1W, 1/10W Chip Resistor 0603 (1608 Metric) Thin Film; Manufacturer: Yageo; Manufacturer Part Number: RT0603BRD07887RL; Distributor Link: *; LCSC: *; Rating: *; ComponentLink1Description: Digikey; ComponentLink1URL: https://www.digikey.ca/en/products/detail/yageo/RT0603BRD07887RL/1072667; ComponentLink2Description: Datasheet; ComponentLink2URL: https://yageogroup.com/content/datasheet/asset/file/PYU-RT_1-TO-0-01_ROHS_L
footprint RES_0603_IPC
pins: 1, 2
text: 0603 887R 1% 1/10W

## RES_0603_INTL
designator R?, comment R0603
Resistor SMD 0603; Manufacturer: *; Manufacturer Part Number: *; Distributor Link: *; LCSC: *; Rating: *
footprint RES_0603
pins: 1, 2

## RES_0603_INTL_DNP
designator R?, comment DNP  (no BOM)
DNP Resistor SMD 0603; Manufacturer: *; Manufacturer Part Number: *; Distributor Link: *; LCSC: *; Rating: *
footprint RES_0603_IPC_DNP
pins: 1, 2

## RES_0805
designator R?, comment R0805
Resistor SMD 0805; Manufacturer: *; Manufacturer Part Number: *; Distributor Link: *; LCSC: *; Rating: *
footprint RES_0805 (Link for footprints (Non-IPC): https://www.circuithub.com/post/recommended-footprints-for-discrete-components)
pins: 1, 2

## RES_0805_INTL
designator R?, comment R0805
Resistor SMD 0805; Manufacturer: *; Manufacturer Part Number: *; Distributor Link: *; LCSC: *; Rating: *
footprint RES_0805 (Link for footprints (Non-IPC): https://www.circuithub.com/post/recommended-footprints-for-discrete-components)
pins: 1, 2

## RES_1206
designator R?, comment R1206
Resistor SMD 1206; Manufacturer: *; Manufacturer Part Number: *; Distributor Link: *; LCSC: *; Rating: *
footprint RES_1206
pins: 1, 2

## RES_1206_10R_1/4W_RC1206FR-1310RL
designator R?, comment RC1206FR-1310RL
10 Ohms ±1% 0.25W, 1/4W Chip Resistor 1206 (3216 Metric) Moisture Resistant Thick Film; Manufacturer: *; Manufacturer Part Number: *; Distributor Link: *; LCSC: *; Rating: *; ComponentLink1Description: Digikey; ComponentLink1URL: https://www.digikey.ca/en/products/detail/yageo/RC1206FR-1310RL/13694184?gclsrc=aw.ds&gad_source=1&gad_campaignid=23192198598&gbraid=0AAAAADrbLljuq8zsgQOzDJqUH_I0QkL-n&gclid=EAIaIQobChMIvfDvz-i5lgMVoDuHAx3lVQdMEAQYAiABEgJzQ_D_BwE; ComponentLink2Description: Datasheet; ComponentLink2URL: https://yageogroup.com/content/datasheet/asset/file/PYU-RC_GROUP_51_ROHS_L
footprint RES_1206_10R_1/4W_RC1206FR-1310RL (10 Ohms ±1% 0.25W, 1/4W Chip Resistor 1206 (3216 Metric) Moisture Resistant Thick Film)
pins: 1, 2
text: 1206 10R ±1% 1/4W

## RES_1206_15mR_1/4W_PE1206FRF070R015L
designator R?, comment PE1206FRF070R015L
15 mOhms ±1% 0.25W, 1/4W Chip Resistor 1206 (3216 Metric) Automotive AEC-Q200, Current Sense Metal Film; Manufacturer: Yageo; Manufacturer Part Number: PE1206FRF070R015L; Distributor Link: *; LCSC: *; Rating: *; ComponentLink1Description: Digikey; ComponentLink1URL: https://www.digikey.ca/en/products/detail/yageo/PE1206FRF070R015L/5914309; ComponentLink2Description: Datasheet; ComponentLink2URL: https://yageogroup.com/content/Resource%20Library/Datasheet/PYU-PE_521_ROHS_L.pdf
footprint RES_1206_IPC
pins: 1, 2
text: 1206 15mR ±1% 1/4W

## RES_1206_20mR_1/4W_PA1206FRE070R02Z
designator R?, comment PA1206FRE070R02Z
20 mOhms ±1% 0.25W, 1/4W Chip Resistor 1206 (3216 Metric) Automotive AEC-Q200, Current Sense, Moisture Resistant Metal Element; Manufacturer: Yageo; Manufacturer Part Number: PA1206FRE070R02Z; Distributor Link: *; LCSC: *; Rating: *; ComponentLink1Description: Digikey; ComponentLink1URL: https://www.digikey.ca/en/products/detail/yageo/PA1206FRE070R02Z/16642011; ComponentLink2Description: Datasheet; ComponentLink2URL: https://yageogroup.com/content/datasheet/asset/file/PYU-PA0100_2512_51_ROHS
footprint RES_1206_IPC
pins: 1, 2
text: 1206 20mR ±1% 1/4W

## RES_1206_56K_1/4W_RC1206FR-0756KL
designator R?, comment RC1206FR-0756KL
56 kOhms ±1% 0.25W, 1/4W Chip Resistor 1206 (3216 Metric) Moisture Resistant Thick Film; Manufacturer: Yageo; Manufacturer Part Number: RC1206FR-0756KL; Distributor Link: *; LCSC: *; Rating: *; ComponentLink1Description: Digikey; ComponentLink1URL: https://www.digikey.ca/en/products/detail/yageo/RC1206FR-0756KL/728994; ComponentLink2Description: Datasheet; ComponentLink2URL: https://yageogroup.com/content/datasheet/asset/file/PYU-RC_GROUP_51_ROHS_L
footprint RES_1206_56K_1/4W_RC1206FR-0756KL (56 kOhms ±1% 0.25W, 1/4W Chip Resistor 1206 (3216 Metric) Moisture Resistant Thick Film)
pins: 1, 2
text: 1206 56k ±1% 1/4W

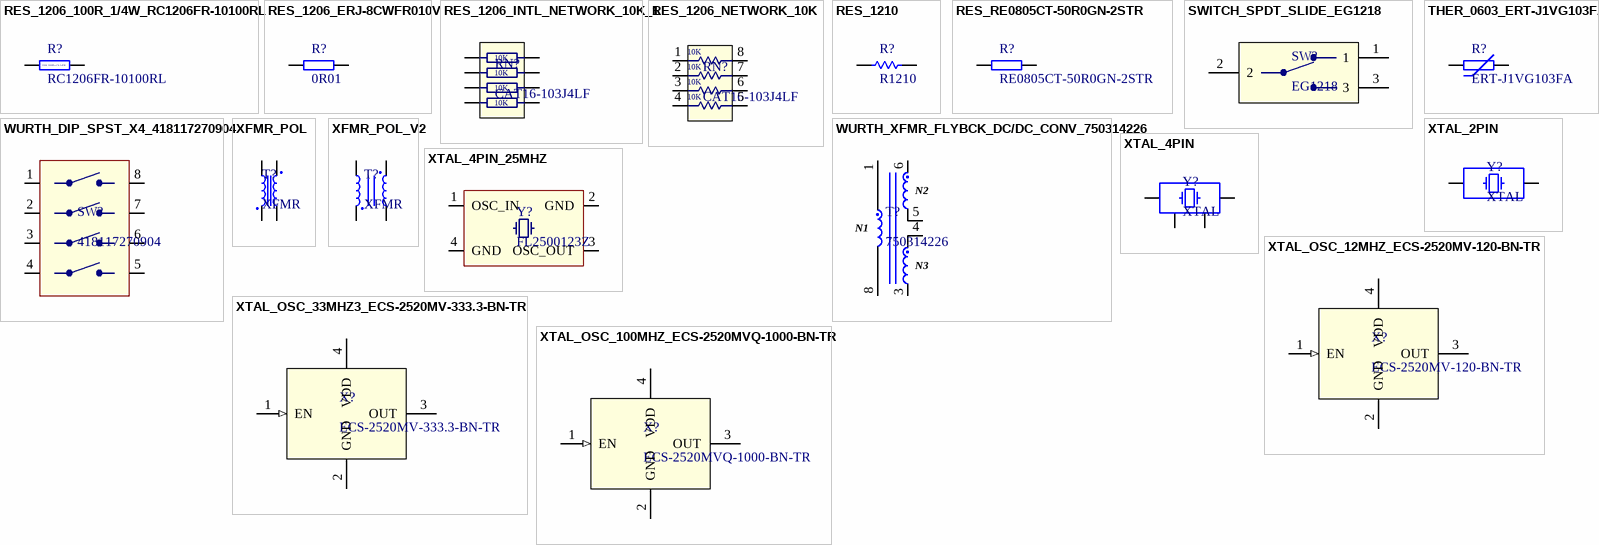
[diagram p5: symbols RES_1206_100R_1/4W_RC1206FR-10100RL to XTAL_OSC_100MHZ_ECS-2520MVQ-1000-BN-TR]

## RES_1206_100R_1/4W_RC1206FR-10100RL
designator R?, comment RC1206FR-10100RL
100 Ohms ±1% 0.25W, 1/4W Chip Resistor 1206 (3216 Metric) Thick Film; Manufacturer: Yageo; Manufacturer Part Number: RC1206FR-10100RL; Distributor Link: *; LCSC: *; Rating: *; ComponentLink1Description: Digikey; ComponentLink1URL: https://www.digikey.ca/en/products/detail/yageo/RC1206FR-10100RL/14286609; ComponentLink2Description: Datasheet; ComponentLink2URL: https://yageogroup.com/content/datasheet/asset/file/PYU-RC_GROUP_51_ROHS_L
footprint RES_1206_100R_1/4W_RC1206FR-10100RL (100 Ohms ±1% 0.25W, 1/4W Chip Resistor 1206 (3216 Metric) Thick Film)
pins: 1, 2
text: 1206 100R ±1% 1/4W

## RES_1206_ERJ-8CWFR010V
designator R?, comment 0R01
10 mOhms ±1% 1W Chip Resistor 1206 (3216 Metric) Automotive AEC-Q200, Current Sense Thick Film; Manufacturer: *; Manufacturer Part Number: *; Distributor Link: *; LCSC: *; Rating: *; ComponentLink1Description: Digikey; ComponentLink1URL: https://www.digikey.ca/en/products/detail/panasonic-electronic-components/ERJ-8CWFR010V/4926997; ComponentLink2Description: Datasheet; ComponentLink2URL: https://industrial.panasonic.com/cdbs/www-data/pdf/RDN0000/AOA0000C313.pdf
footprint RES_1206_IPC
pins: 1, 2

## RES_1206_INTL_NETWORK_10K_1
designator RN?, comment CAT16-103J4LF
10k Ohm ±5% 62.5mW Power Per Element Isolated 4 Resistor Network/Array ±200ppm/°C 1206 (3216 Metric), Concave, Long Side Terminals; Manufacturer: *; Manufacturer Part Number: *; Distributor Link: *; LCSC: *; Rating: *
pins: 1, 1, 1, 1, 2, 2, 2, 2
text: 10K

## RES_1206_NETWORK_10K
designator RN?, comment CAT16-103J4LF
10k Ohm ±5% 62.5mW Power Per Element Isolated 4 Resistor Network/Array ±200ppm/°C 1206 (3216 Metric), Concave, Long Side Terminals; Manufacturer: *; Manufacturer Part Number: *; Distributor Link: *; LCSC: *; Rating: *
footprint RES_1206_CONCAVE_LONGSIDE_TERMINALS (10k Ohm ±5% 62.5mW Power Per Element Isolated 4 Resistor Network/Array ±200ppm/°C 1206 (3216 Metric), Concave, Long Side Terminals)
pins: 1, 2, 3, 4, 5, 6, 7, 8
text: 10K

## RES_1210
designator R?, comment R1210
Resistor SMD 1210; Manufacturer: *; Manufacturer Part Number: *; Distributor Link: *; LCSC: *; Rating: *
footprint RES_1210
pins: 1, 2

## RES_RE0805CT-50R0GN-2STR
designator R?, comment RE0805CT-50R0GN-2STR
50 Ohms ±2% 5W Chip Resistor 0805 (2012 Metric) Thick Film; Manufacturer: *; Manufacturer Part Number: *; Distributor Link: *; LCSC: *; Rating: *; ComponentLink1Description: Digikey; ComponentLink1URL: https://www.digikey.ca/en/products/detail/vishay-barry/RE0805CT-50R0GN-2STR/26523813; ComponentLink2Description: Datasheet; ComponentLink2URL: https://barryind.com/pdf/Resistors/Chips/RE0805ZZ-XXXXJN-2S.pdf
footprint RES_RE0805CT-50R0GN-2STR (50 Ohms ±2% 5W Chip Resistor 0805 (2012 Metric) Thick Film)
pins: 1, 2

## SWITCH_SPDT_SLIDE_EG1218
designator SW?, comment EG1218
Slide Switch SPDT Through Hole; ComponentLink1Description: Digikey; ComponentLink1URL: https://www.digikey.ca/en/products/detail/e-switch/EG1218/101726; ComponentLink2Description: Datasheet; ComponentLink2URL: https://configured-product-images.s3.amazonaws.com/Datasheets/EG.pdf
footprint SWITCH_SPDT_SLIDE_EG1218 (Slide Switch SPDT Through Hole)
pins: 1, 2, 3

## THER_0603_ERT-J1VG103FA
designator R?, comment ERT-J1VG103FA
NTC Thermistor 10k 0603 (1608 Metric); ComponentLink1Description: Digikey; ComponentLink1URL: https://www.digikey.ca/en/products/detail/panasonic-electronic-components/ERT-J1VG103FA/526532; ComponentLink2Description: Datasheet; ComponentLink2URL: https://industrial.panasonic.com/ww/products/pt/ntc-thermistor/models/ERTJ1VG103FA
footprint THER_0603_ERT-J1VG103FA (NTC Thermistor 10k 0603 (1608 Metric))
pins: 1, 2

## WURTH_DIP_SPST_X4_418117270904
designator SW?, comment 418117270904
Dip Switch SPST 4 Position Through Hole Slide (Standard) Actuator 25mA 24VDC; ComponentLink1Description: Digikey; ComponentLink1URL: https://www.digikey.ca/en/products/detail/w%C3%BCrth-elektronik/418117270904/3174489; ComponentLink2Description: Datasheet; ComponentLink2URL: https://www.we-online.com/components/products/datasheet/418117270904.pdf
footprint WURTH_DIP_SPST_X4_418117270904 (Dip Switch SPST 4 Position Through Hole Slide (Standard) Actuator 25mA 24VDC)
pins: 1, 2, 3, 4, 5, 6, 7, 8

## WURTH_XFMR_FLYBCK_DC/DC_CONV_750314226
designator T?, comment 750314226
Flyback Converters For For DC/DC Converters SMPS Transformer 1500Vrms Isolation 250 ~ 600kHz Surface Mount; Manufacturer: *; Manufacturer Part Number: *; Distributor Link: *; LCSC: *; Rating: *; ComponentLink1Description: Digikey; ComponentLink1URL: https://www.digikey.ca/en/products/detail/w%C3%BCrth-elektronik/750314226/4552396; ComponentLink2Description: Datasheet; ComponentLink2URL: https://www.we-online.com/components/products/datasheet/750314226.pdf
footprint WURTH_XFMR_FLYBCK_DC/DC_CONV_750314226 (Flyback Converters For For DC/DC Converters SMPS Transformer 1500Vrms Isolation 250 ~ 600kHz Surface Mount)
pins: 1, 3, 4, 5, 6, 8
text: N2; N1; N3

## XFMR_POL
designator T?, comment XFMR
Polarized Transformer; Manufacturer: *; Manufacturer Part Number: *; Distributor Link: *; LCSC: *; Rating: *
pins: 1, 2, 3, 4

## XFMR_POL_V2
designator T?, comment XFMR
Polarized Transformer; Manufacturer: *; Manufacturer Part Number: *; Distributor Link: *; LCSC: *; Rating: *
pins: 1, 2, 3, 4

## XTAL_2PIN
designator Y?, comment XTAL
Crystal SMD 2 Pin
pins: 1, 2

## XTAL_4PIN
designator Y?, comment XTAL
Crystal SMD 4 Pin
pins: 1, 2, 3, 4

## XTAL_4PIN_25MHZ
designator Y?, comment FL2500123Z
25 MHz ±30ppm Crystal 20pF 50 Ohms 4-SMD, No Lead; ComponentLink1Description: Digikey; ComponentLink1URL: https://www.digikey.com/en/products/detail/diodes-incorporated/FL2500123Z/6048945; ComponentLink2Description: Datasheet; ComponentLink2URL: https://www.diodes.com/assets/Datasheets/FL.pdf; ComponentLink3Description: LCSC; ComponentLink3URL: https://www.lcsc.com/product-detail/C531161.html?s_z=n_FL2500123Z
footprint XTAL_SMD_3MM2x2MM5
pins: 1 OSC_IN, 2 GND, 3 OSC_OUT, 4 GND

## XTAL_OSC_12MHZ_ECS-2520MV-120-BN-TR
designator X?, comment ECS-2520MV-120-BN-TR
12 MHz XO (Standard) HCMOS Oscillator 1.6V ~ 3.6V Enable/Disable 4-SMD, No Lead; ComponentLink1Description: Digikey; ComponentLink1URL: https://www.digikey.ca/en/products/detail/ecs-inc/ECS-2520MV-120-BN-TR/8593605; ComponentLink2Description: Datasheet; ComponentLink2URL: https://ecsxtal.com/store/pdf/ECS-2520MV.pdf
footprint XTAL_OSC_12MHZ_ECS-2520MV-120-BN-TR (12 MHz XO (Standard) HCMOS Oscillator 1.6V ~ 3.6V Enable/Disable 4-SMD, No Lead)
pins: 1 EN (in), 2 GND (power), 3 OUT, 4 VDD (power)

## XTAL_OSC_33MHZ3_ECS-2520MV-333.3-BN-TR
designator X?, comment ECS-2520MV-333.3-BN-TR
33.3333 MHz XO (Standard) HCMOS Oscillator 1.6V ~ 3.6V Enable/Disable 4-SMD, No Lead; ComponentLink1Description: Digikey; ComponentLink1URL: https://www.digikey.com/en/products/detail/ecs-inc/ECS-2520MV-333-3-BN-TR/8593611; ComponentLink2Description: Datasheet; ComponentLink2URL: https://ecsxtal.com/store/pdf/ECS-2520MV.pdf
footprint XTAL_OSC_33MHZ3_ECS-2520MV-333.3-BN-TR (33.3333 MHz XO (Standard) HCMOS Oscillator 1.6V ~ 3.6V Enable/Disable 4-SMD, No Lead)
pins: 1 EN (in), 2 GND (power), 3 OUT, 4 VDD (power)

## XTAL_OSC_100MHZ_ECS-2520MVQ-1000-BN-TR
designator X?, comment ECS-2520MVQ-1000-BN-TR
100 MHz XO (Standard) HCMOS Oscillator 1.6V ~ 3.6V Enable/Disable 4-SMD, No Lead; ComponentLink1Description: Digikey; ComponentLink1URL: https://www.digikey.com/en/products/detail/ecs-inc/ECS-2520MVQ-1000-BN-TR/12088487; ComponentLink2Description: Datasheet; ComponentLink2URL: https://ecsxtal.com/store/pdf/ECS-2520MVQ.pdf
footprint XTAL_OSC_100MHZ_ECS-2520MVQ-1000-BN-TR (100 MHz XO (Standard) HCMOS Oscillator 1.6V ~ 3.6V Enable/Disable 4-SMD, No Lead)
pins: 1 EN (in), 2 GND (power), 3 OUT, 4 VDD (power)